# EAGLE library part MAX4659 (library my)
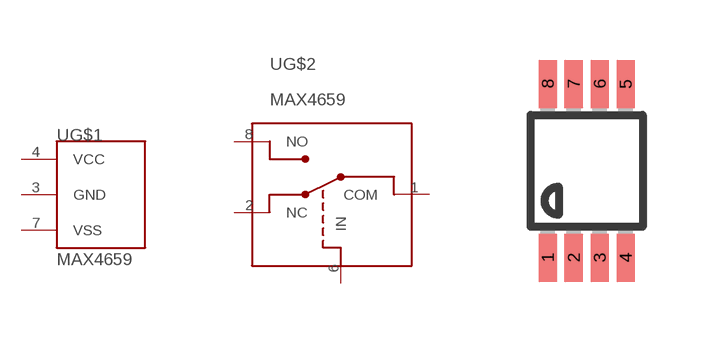
[diagram p4: symbol with the pads of UMAX8; footprint UMAX8]

Designator prefix -; gates G$2=ANALOG_SWITCH G$1=PWR_VCC_VSS_GND

## MAX4659  [UMAX8]
1  G$2:COM
2  G$2:NC
3  G$1:GND
4  G$1:VCC
6  G$2:IN
7  G$1:VSS
8  G$2:NO

## Footprint UMAX8 (pad centres in mm)
micro MAX Package
smd 0.45 x 1.2: 1 -0.975,-2.175; 2 -0.325,-2.175; 3 0.325,-2.175; 4 0.975,-2.175; 5 0.975,2.175; 6 0.325,2.175; 7 -0.325,2.175; 8 -0.975,2.175